# EAGLE library part SI8231 (library Custom_old)
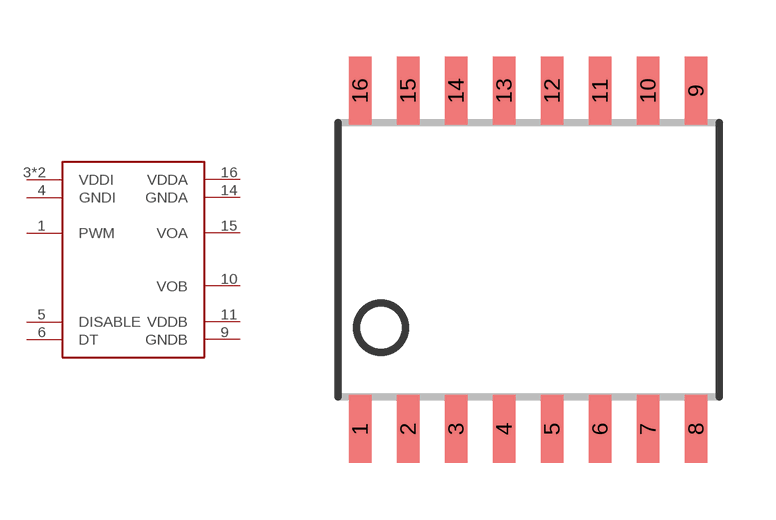
[diagram p27: symbol with the pads of SOIC16LWB; footprint SOIC16LWB]

Designator prefix -

## SI8231SOIC16W  [SOIC16LWB]
1  PWM
3  VDDI
4  GNDI
5  DISABLE
6  DT
8  VDDI
9  GNDB
10  VOB
11  VDDB
14  GNDA
15  VOA
16  VDDA

## Footprint SOIC16LWB (pad centres in mm)
SMALL OUTLINE PACKAGE 10.3 x 10.3 Source: http://www.lsicsi.com/pdfs/Drawings/SOIC%20Outline%20Dwgs.pdf
smd 0.6 x 1.8: 1 -4.445,-4.475; 2 -3.175,-4.475; 3 -1.905,-4.475; 4 -0.635,-4.475; 5 0.635,-4.475; 6 1.905,-4.475; 7 3.175,-4.475; 8 4.445,-4.475; 9 4.445,4.475; 10 3.175,4.475; 11 1.905,4.475; 12 0.635,4.475; 13 -0.635,4.475; 14 -1.905,4.475; 15 -3.175,4.475; 16 -4.445,4.475